# Altium schematic symbol library ESP32-WROVER-B.SchLib: 1 symbol
Pins are listed as number, name and electrical type; pins without a type are passive.

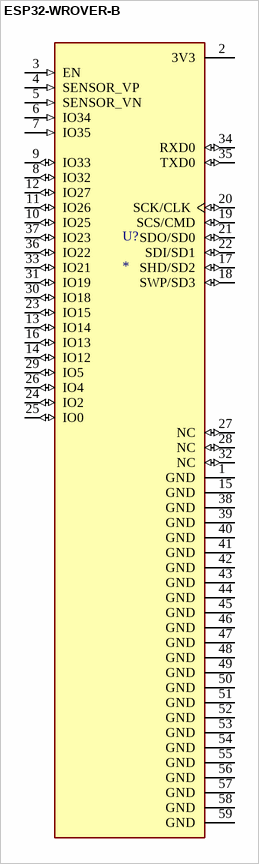
[diagram p0: symbol ESP32-WROVER-B]

## ESP32-WROVER-B
designator U?
Bluetooth, WiFi 802.11b/g/n, Bluetooth v4.2 +EDR, Class 1, 2 and 3 Transceiver Module 2.4GHz ~ 2.5GHz PCB Trace Surface Mount; MF: Espressif Systems; MP: ESP32-WROVER-B; SnapEDA_Link: https://www.snapeda.com/parts/ESP32-WROVER-B/Espressif+Systems/view-part/?ref=snap; Package: Module Espressif Systems; Value: *; Check_prices: https://www.snapeda.com/parts/ESP32-WROVER-B/Espressif+Systems/view-part/?ref=eda
footprint MODULE_ESP32-WROVER-B
pins: 1 GND (power), 2 3V3 (power), 3 EN (in), 4 SENSOR_VP (in), 5 SENSOR_VN (in), 6 IO34 (in), 7 IO35 (in), 8 IO32 (io), 9 IO33 (io), 10 IO25 (io), 11 IO26 (io), 12 IO27 (io), 13 IO14 (io), 14 IO12 (io), 15 GND (power), 16 IO13 (io), 17 SHD/SD2 (io), 18 SWP/SD3 (io), 19 SCS/CMD (io), 20 SCK/CLK (io), 21 SDO/SD0 (io), 22 SDI/SD1 (io), 23 IO15 (io), 24 IO2 (io), 25 IO0 (io), 26 IO4 (io), 27 NC (io), 28 NC (io), 29 IO5 (io), 30 IO18 (io), 31 IO19 (io), 32 NC (io), 33 IO21 (io), 34 RXD0 (io), 35 TXD0 (io), 36 IO22 (io), 37 IO23 (io), 38 GND (power), 39 GND (power), 40 GND (power), 41 GND (power), 42 GND (power), 43 GND (power), 44 GND (power), 45 GND (power), 46 GND (power), 47 GND (power), 48 GND (power), 49 GND (power), 50 GND (power), 51 GND (power), 52 GND (power), 53 GND (power), 54 GND (power), 55 GND (power), 56 GND (power), 57 GND (power), 58 GND (power), 59 GND (power)